# Altium footprint library HAKATAYA.PcbLib: 227 footprints (part 13 of 15)
Each footprint in its own frame and in the unit in brackets; x right, y up, seen from the top. Pads: shape width x height; smd on the part's side, far side on the other; paste and mask are expansions set on the pad; w line width, h text height; cw(c..) or ccw(c..) is an arc to the next point about the centre after c.
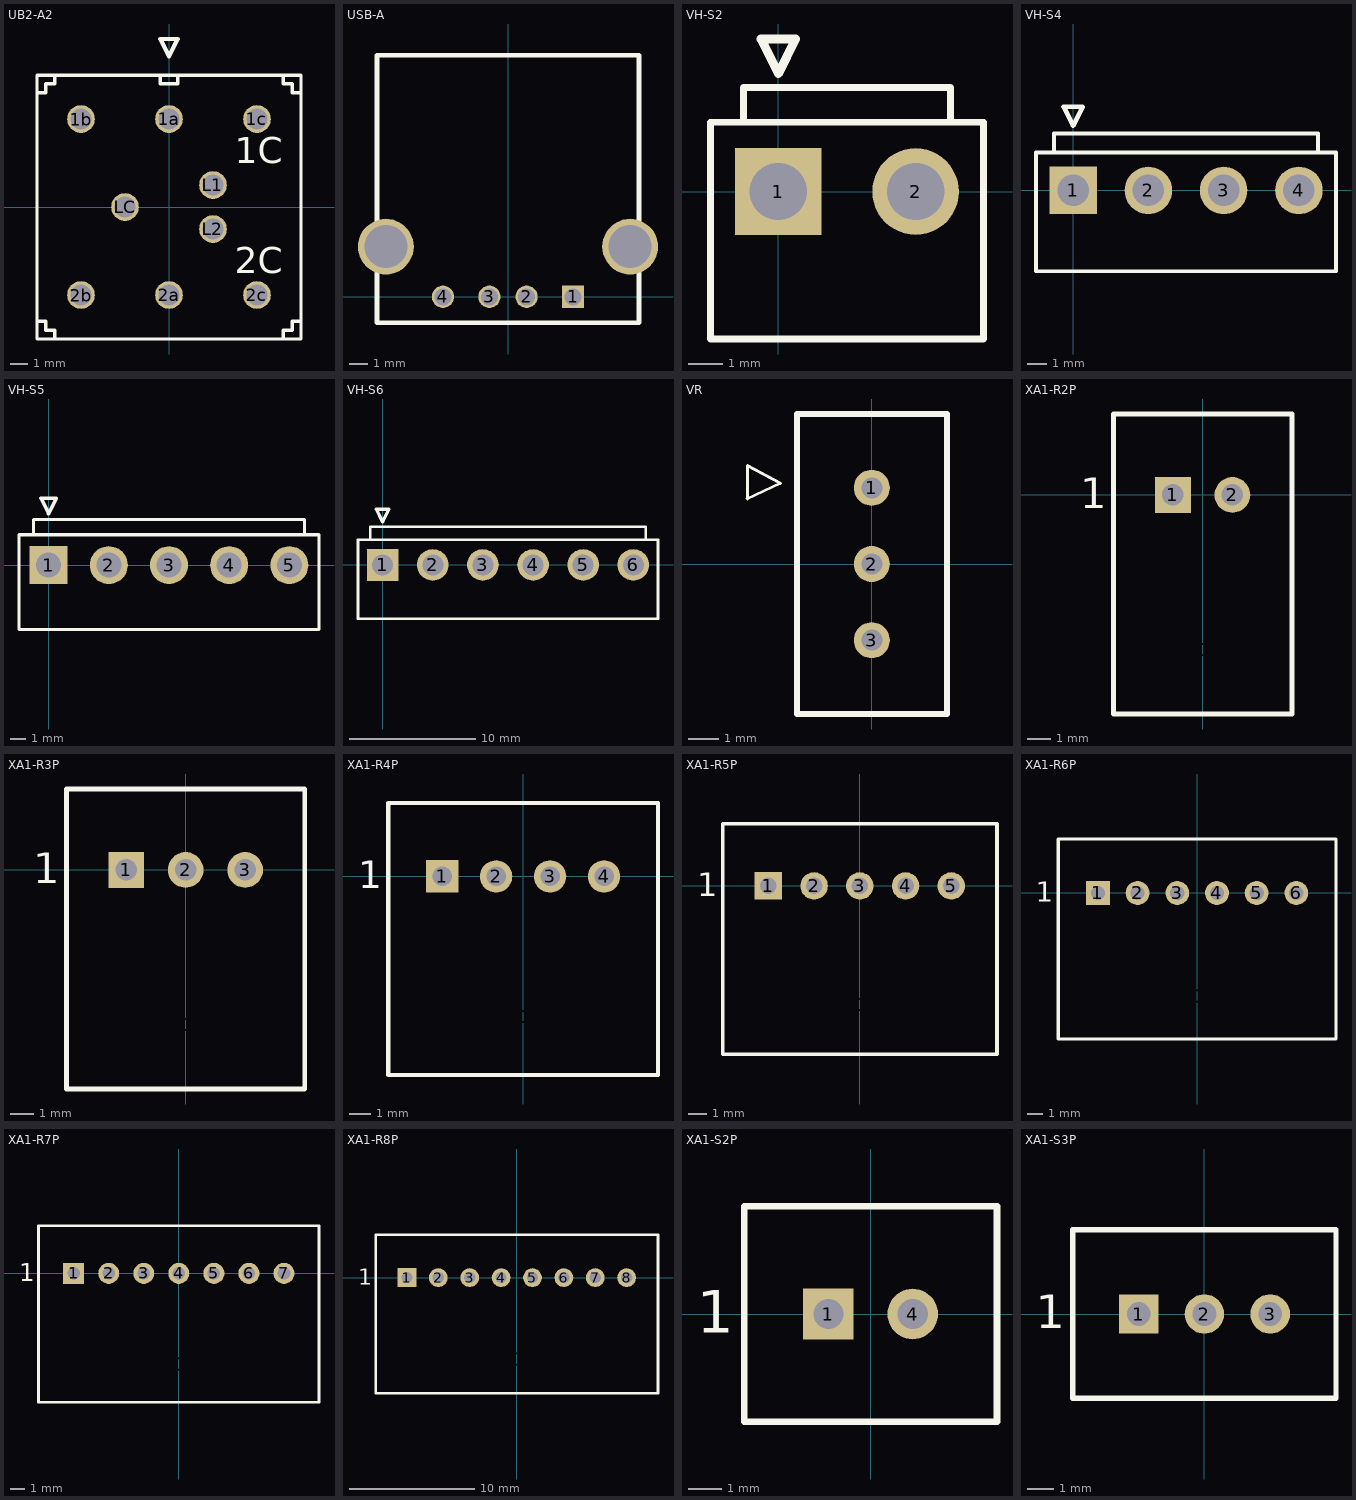
[diagram p12: the footprints below, top view; thin cyan lines are the x and y axes]

## UB2-A2 [mm] "NKK PUSH SW BODY H=10mm 15.24x15.24"
height 18.5
pads (9):
  round 1.6 hole 1.2: 1a(0,5.08) 1b(-5.08,5.08) 1c(5.08,5.08) 2a(0,-5.08) 2b(-5.08,-5.08) 2c(5.08,-5.08) L1(2.54,1.27) L2(2.54,-1.27) LC(-2.54,0)
Top Overlay:
  lines w0.2: -7.62,-6.604 -7.112,-6.604 -7.112,-7.112 -6.604,-7.112 -6.604,-7.62 ; -7.62,6.604 -7.112,6.604 -7.112,7.112 -6.604,7.112 -6.604,7.62 ; -0.508,7.62 -0.508,7.112 0.508,7.112 0.508,7.62 ; 6.604,-7.62 6.604,-7.112 7.112,-7.112 7.112,-6.604 7.62,-6.604 ; 6.604,7.62 6.604,7.112 7.112,7.112 7.112,6.604 7.62,6.604 ; -7.62,-7.62 -7.62,7.62 7.62,7.62 7.62,-7.62 -7.62,-7.62
  lines w0.254: -0.5,9.7 0.5,9.7 0,8.7 -0.5,9.7
  text "1C" at 3.81,2.54 h1.52
  text "2C" at 3.81,-3.81 h1.52

## USB-A [mm]
pads (6):
  rect 1.2x1.2 hole 0.92: 1(3.5,0)
  round 1.2 hole 0.92: 2(1,0) 3(-1,0) 4(-3.5,0)
  round 3 hole 2.3: ""(-6.57,2.7) ""(6.57,2.7)
Top Overlay:
  lines w0.254: -7.05,-1.4 7.05,-1.4 7.05,13 -7.05,13 -7.05,-1.4

## VH-S2 [mm] "3.96"
height 11
pads (2):
  rect 2.5x2.5 hole 1.65: 1(0,0)
  round 2.5 hole 1.65: 2(3.96,0)
Top Overlay:
  lines w0.2: -1,2 -1,3 4.96,3 4.96,2 ; -1.95,-4.25 -1.95,2 5.91,2 5.91,-4.25 -1.95,-4.25
  lines w0.254: -0.5,4.4 0.5,4.4 0,3.4 -0.5,4.4

## VH-S4 [mm] "3.96"
height 11
pads (4):
  rect 2.5x2.5 hole 1.65: 1(0,0)
  round 2.5 hole 1.65: 2(3.96,0) 3(7.92,0) 4(11.88,0)
Top Overlay:
  lines w0.2: -1,2 -1,3 12.88,3 12.88,2 ; -1.95,-4.25 -1.95,2 13.83,2 13.83,-4.25 -1.95,-4.25
  lines w0.254: -0.5,4.4 0.5,4.4 0,3.4 -0.5,4.4

## VH-S5 [mm] "3.96"
height 11
pads (5):
  rect 2.5x2.5 hole 1.65: 1(0,0)
  round 2.5 hole 1.65: 2(3.96,0) 3(7.92,0) 4(11.88,0) 5(15.84,0)
Top Overlay:
  lines w0.2: -1,2 -1,3 16.84,3 16.84,2 ; -1.95,-4.25 17.79,-4.25 17.79,2 -1.95,2 -1.95,-4.25
  lines w0.254: -0.5,4.4 0,3.4 0.5,4.4 -0.5,4.4

## VH-S6 [mm] "3.96"
height 11
pads (6):
  rect 2.5x2.5 hole 1.65: 1(0,0)
  round 2.5 hole 1.65: 2(3.96,0) 3(7.92,0) 4(11.88,0) 5(15.84,0) 6(19.8,0)
Top Overlay:
  lines w0.2: -1,2 -1,3 20.8,3 20.8,2 ; -1.95,-4.25 21.75,-4.25 21.75,2 -1.95,2 -1.95,-4.25
  lines w0.254: -0.5,4.4 0,3.4 0.5,4.4 -0.5,4.4

## VR [mm] "VR Trim"
height 10
pads (3):
  round 1.2 hole 0.7: 1(0,2.54) 2(0,0) 3(0,-2.54)
Top Overlay:
  lines w0.1: -4.151,2.176 -3.045,2.688 -4.15,3.285 -4.15,2.173
  lines w0.2: -2.5,-5 -2.5,5 2.5,5 2.5,-5 -2.5,-5

## XA1-R2P [mm] "JST XA CONNECTOR Pitch 2.5mm"
height 8.1
pads (3):
  oval 2.8x2 on Drill Drawing: 0(0,-6.5)
  rect 1.5x1.5 hole 0.9: 1(-1.25,0)
  round 1.5 hole 0.9: 2(1.25,0)
Top Overlay:
  lines w0.2: -3.75,-9.2 -3.75,3.4 3.75,3.4 3.75,-9.2 -3.75,-9.2
  text "1" at -5.15,-0.55 h1.27

## XA1-R3P [mm] "JST XA CONNECTOR Pitch 2.5mm"
height 8.1
pads (4):
  oval 2.8x2 on Drill Drawing: 0(0,-6.5)
  rect 1.5x1.5 hole 0.9: 1(-2.5,0)
  round 1.5 hole 0.9: 2(0,0) 3(2.5,0)
Top Overlay:
  lines w0.2: -5,-9.2 5,-9.2 5,3.4 -5,3.4 -5,-9.2
  text "1" at -6.4,-0.55 h1.27

## XA1-R4P [mm] "JST XA CONNECTOR Pitch 2.5mm"
height 8.1
pads (5):
  oval 2.8x2 on Drill Drawing: 0(0,-6.5)
  rect 1.5x1.5 hole 0.9: 1(-3.75,0)
  round 1.5 hole 0.9: 2(-1.25,0) 3(1.25,0) 4(3.75,0)
Top Overlay:
  lines w0.2: -6.25,-9.2 -6.25,3.4 6.25,3.4 6.25,-9.2 -6.25,-9.2
  text "1" at -7.65,-0.55 h1.27

## XA1-R5P [mm] "JST XA CONNECTOR Pitch 2.5mm"
height 8.1
pads (6):
  oval 2.8x2 on Drill Drawing: 0(0,-6.5)
  rect 1.5x1.5 hole 0.9: 1(-5,0)
  round 1.5 hole 0.9: 2(-2.5,0) 3(0,0) 4(2.5,0) 5(5,0)
Top Overlay:
  lines w0.2: -7.5,-9.2 -7.5,3.4 7.5,3.4 7.5,-9.2 -7.5,-9.2
  text "1" at -8.9,-0.55 h1.27

## XA1-R6P [mm] "JST XA CONNECTOR Pitch 2.5mm"
height 8.1
pads (7):
  oval 2.8x2 on Drill Drawing: 0(0,-6.5)
  rect 1.5x1.5 hole 0.9: 1(-6.25,0)
  round 1.5 hole 0.9: 2(-3.75,0) 3(-1.25,0) 4(1.25,0) 5(3.75,0) 6(6.25,0)
Top Overlay:
  lines w0.2: -8.75,-9.2 8.75,-9.2 8.75,3.4 -8.75,3.4 -8.75,-9.2
  text "1" at -10.15,-0.55 h1.27

## XA1-R7P [mm] "JST XA CONNECTOR Pitch 2.5mm"
height 8.1
pads (8):
  oval 2.8x2 on Drill Drawing: 0(0,-6.5)
  rect 1.5x1.5 hole 0.9: 1(-7.5,0)
  round 1.5 hole 0.9: 2(-5,0) 3(-2.5,0) 4(0,0) 5(2.5,0) 6(5,0) 7(7.5,0)
Top Overlay:
  lines w0.2: -10,-9.2 -10,3.4 10,3.4 10,-9.2 -10,-9.2
  text "1" at -11.4,-0.55 h1.27

## XA1-R8P [mm] "JST XA CONNECTOR Pitch 2.5mm"
height 8.1
pads (9):
  oval 2.8x2 on Drill Drawing: 0(0,-6.5)
  rect 1.5x1.5 hole 0.9: 1(-8.75,0)
  round 1.5 hole 0.9: 2(-6.25,0) 3(-3.75,0) 4(-1.25,0) 5(1.25,0) 6(3.75,0) 7(6.25,0) 8(8.75,0)
Top Overlay:
  lines w0.2: -11.25,-9.2 -11.25,3.4 11.25,3.4 11.25,-9.2 -11.25,-9.2
  text "1" at -12.65,-0.55 h1.27

## XA1-S2P [mm] "JST XA CONNECTOR Pitch 2.5mm"
height 8.8
pads (3):
  round 1.2 on Drill Drawing: 0(-2.85,-1.6)
  rect 1.5x1.5 hole 0.9: 1(-1.25,0)
  round 1.5 hole 0.9: 4(1.25,0)
Top Overlay:
  lines w0.2: -3.75,-3.2 -3.75,3.2 3.75,3.2 3.75,-3.2 -3.75,-3.2
  text "1" at -5.15,-0.55 h1.27

## XA1-S3P [mm] "JST XA CONNECTOR Pitch 2.5mm"
height 8.8
pads (4):
  round 1.2 on Drill Drawing: 0(-4.1,-1.6)
  rect 1.5x1.5 hole 0.9: 1(-2.5,0)
  round 1.5 hole 0.9: 2(0,0) 3(2.5,0)
Top Overlay:
  lines w0.2: -5,-3.2 5,-3.2 5,3.2 -5,3.2 -5,-3.2
  text "1" at -6.4,-0.55 h1.27